# Altium footprint library LED_1206.PcbLib: 1 footprints
Each footprint in its own frame and in the unit in brackets; x right, y up, seen from the top. Pads: shape width x height; smd on the part's side, far side on the other; paste and mask are expansions set on the pad; w line width, h text height; cw(c..) or ccw(c..) is an arc to the next point about the centre after c.
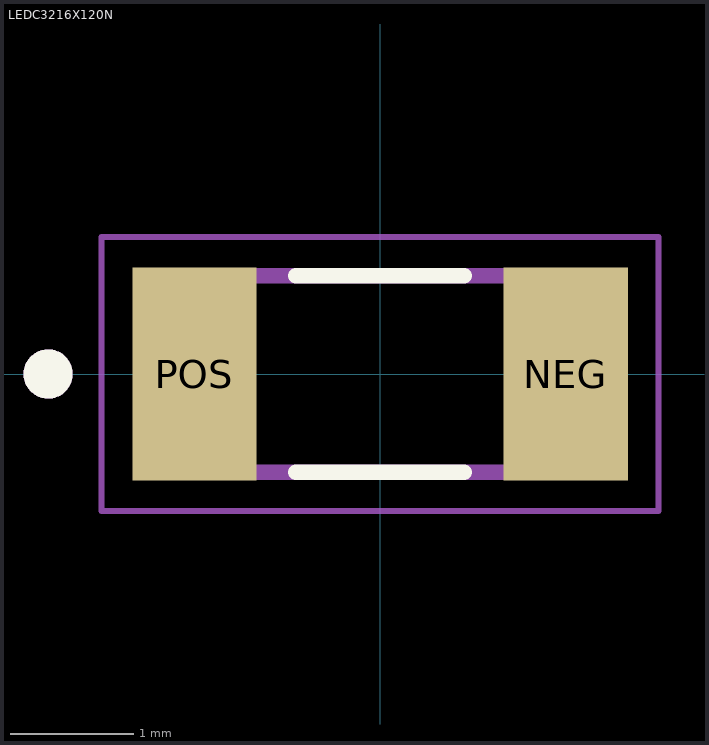
[diagram p0: the footprint, top view; thin cyan lines are the x and y axes]

## LEDC3216X120N [mm]
pads (2):
  rect 1.01x1.73 smd: NEG(1.51,0) POS(-1.51,0)
Top Overlay:
  circle w0.2: c-2.7,0 r0.1
  lines w0.127: -0.685,-0.8 0.685,-0.8 ; -0.685,0.8 0.685,0.8
Mechanical 13:
  circle w0.2: c-2.7,0 r0.1
  lines w0.127: -1.6,-0.8 -1.6,0.8 1.6,0.8 1.6,-0.8 -1.6,-0.8
Mechanical 15:
  lines w0.05: -2.265,-1.115 -2.265,1.115 2.265,1.115 2.265,-1.115 -2.265,-1.115
3D body "LED 1206--3DModel.STEP": height 1.2, standoff 0, extent -1.6,-0.8 1.6,0.8